# EAGLE library part CONN_BACKPLANE_ESC_CONTROLLER (library X16_Backplane)
Backplane to ESC Adapter Connector
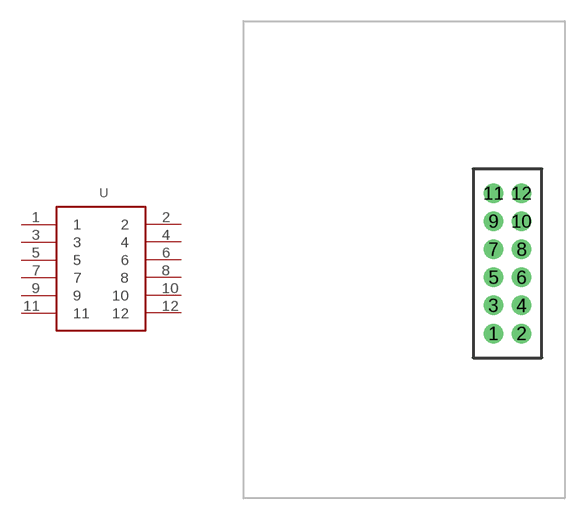
[diagram p1: symbol with the pads of BACKPLANE_CONNECTORS_BKP; footprint BACKPLANE_CONNECTORS_BKP]

Designator prefix -

## CONN_BACKPLANE_ESC_CONTROLLERBKP  [BACKPLANE_CONNECTORS_BKP]
1  1  pas
2  2  pas
3  3  pas
4  4  pas
5  5  pas
6  6  pas
7  7  pas
8  8  pas
9  9  pas
10  10  pas
11  11  pas
12  12  pas

## Footprint BACKPLANE_CONNECTORS_BKP (pad centres in mm)
drill 0.79 pad 1.39: 1 -1,-5; 2 1,-5; 3 -1,-3; 4 1,-3; 5 -1,-1; 6 1,-1; 7 -1,1; 8 1,1; 9 -1,3; 10 1,3; 11 -1,5; 12 1,5